# Altium integrated library Capacitor - Aluminium TH.IntLib: 4591 symbols (part 67 of 68)
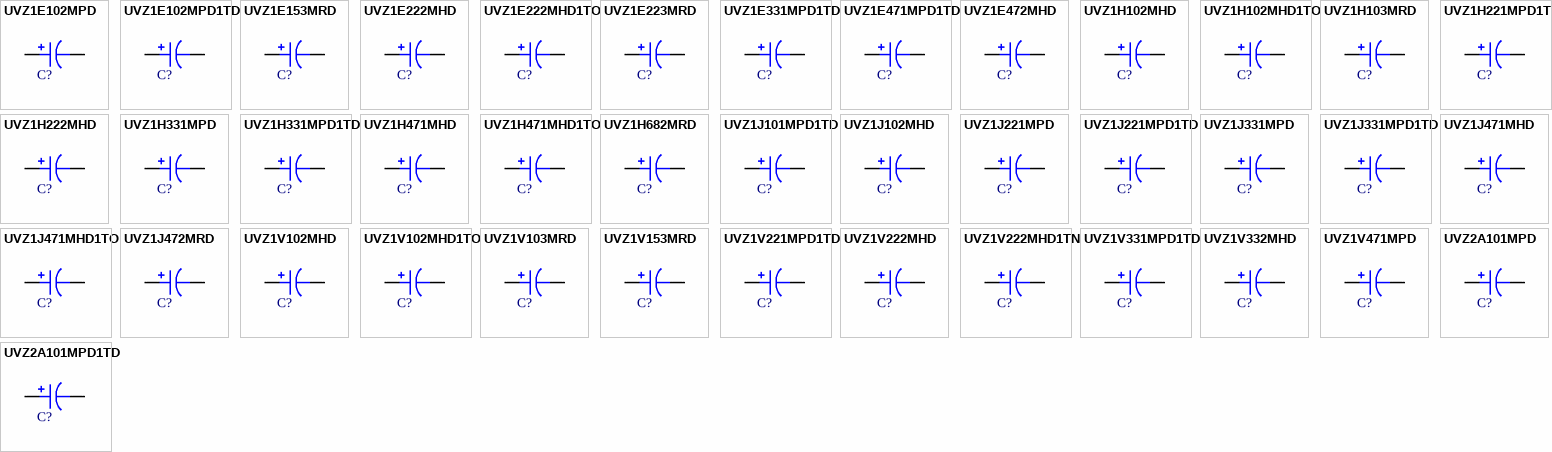
[diagram p180: symbols UVZ1E102MPD to UVZ2A101MPD1TD]

## UVZ1H102MHD
designator C?, comment 1000uF  (value not drawn)
CAP ALUM 1000UF 20% 50V RADIAL; Part Number: UVZ1H102MHD; Manufacturer: Nichicon; TemperatureRange: -55C ~ 105C; Type: Polar; Ripple Current: 950mA; Value: 1000uF; PartId: 23564; Supplier 1: Digi-Key; Supplier Part Number 1: 493-1345-ND; ComponentLink1Description: Datasheet; ComponentLink1URL: http://nichicon-us.com/english/products/pdfs/e-uvz.pdf; ComponentLink2Description: Digi-Key Listing; ComponentLink2URL: https://www.digikey.com/product-detail/en/nichicon/UVZ1H102MHD/493-1345-ND/589086; Tolerance: 20%; Voltage: 50V; Price: 0.9; Device Package: Radial, Can, 12.5mm
footprint CAP AL TH D12.5 L5 H25
pins: 1, 2

## UVZ1H102MHD1TO
designator C?, comment 1000uF  (value not drawn)
CAP ALUM 1000UF 20% 50V RADIAL; Part Number: UVZ1H102MHD1TO; Manufacturer: Nichicon; TemperatureRange: -55C ~ 105C; Type: Polar; Ripple Current: 950mA; Value: 1000uF; PartId: 23807; Supplier 1: Digi-Key; Supplier Part Number 1: 493-13465-3-ND; ComponentLink1Description: Datasheet; ComponentLink1URL: http://nichicon-us.com/english/products/pdfs/e-uvz.pdf; ComponentLink2Description: Digi-Key Listing; ComponentLink2URL: https://www.digikey.com/product-detail/en/nichicon/UVZ1H102MHD1TO/493-13465-3-ND/4342021; Tolerance: 20%; Voltage: 50V; Price: 0.3778; Device Package: Radial, Can, 12.5mm
footprint CAP AL TH D12.5 L5 H27
pins: 1, 2

## UVZ1H103MRD
designator C?, comment 10000uF  (value not drawn)
CAP ALUM 10000UF 20% 50V RADIAL; Part Number: UVZ1H103MRD; Manufacturer: Nichicon; TemperatureRange: -55C ~ 105C; Type: Polar; Ripple Current: 2.85A; Value: 10000uF; PartId: 27506; Supplier 1: Digi-Key; Supplier Part Number 1: 493-1350-ND; ComponentLink1Description: Datasheet; ComponentLink1URL: http://nichicon-us.com/english/products/pdfs/e-uvz.pdf; ComponentLink2Description: Digi-Key Listing; ComponentLink2URL: https://www.digikey.com/product-detail/en/nichicon/UVZ1H103MRD/493-1350-ND/589091; Tolerance: 20%; Voltage: 50V; Price: 4.14; Device Package: Radial, Can, 25mm
footprint CAP AL TH D25 L12.5 H52
pins: 1, 2

## UVZ1H221MPD1TD
designator C?, comment 220uF  (value not drawn)
CAP ALUM 220UF 20% 50V RADIAL; Part Number: UVZ1H221MPD1TD; Manufacturer: Nichicon; TemperatureRange: -55C ~ 105C; Type: Polar; Ripple Current: 300mA; Value: 220uF; PartId: 24549; Supplier 1: Digi-Key; Supplier Part Number 1: 493-13467-3-ND; ComponentLink1Description: Datasheet; ComponentLink1URL: http://nichicon-us.com/english/products/pdfs/e-uvz.pdf; ComponentLink2Description: Digi-Key Listing; ComponentLink2URL: https://www.digikey.com/product-detail/en/nichicon/UVZ1H221MPD1TD/493-13467-3-ND/4342023; Tolerance: 20%; Voltage: 50V; Price: 0.148; Device Package: Radial, Can, 10mm
footprint CAP AL TH D10 L5 H14.5
pins: 1, 2

## UVZ1H222MHD
designator C?, comment 2200uF  (value not drawn)
CAP ALUM 2200UF 20% 50V RADIAL; Part Number: UVZ1H222MHD; Manufacturer: Nichicon; TemperatureRange: -55C ~ 105C; Type: Polar; Ripple Current: 1.47A; Value: 2200uF; PartId: 27339; Supplier 1: Digi-Key; Supplier Part Number 1: 493-1346-ND; ComponentLink1Description: Datasheet; ComponentLink1URL: http://nichicon-us.com/english/products/pdfs/e-uvz.pdf; ComponentLink2Description: Digi-Key Listing; ComponentLink2URL: https://www.digikey.com/product-detail/en/nichicon/UVZ1H222MHD/493-1346-ND/589087; Tolerance: 20%; Voltage: 50V; Price: 1.67; Device Package: Radial, Can, 16mm
footprint CAP AL TH D16 L7.5 H37
pins: 1, 2

## UVZ1H331MPD
designator C?, comment 330uF  (value not drawn)
CAP ALUM 330UF 20% 50V RADIAL; Part Number: UVZ1H331MPD; Manufacturer: Nichicon; TemperatureRange: -55C ~ 105C; Type: Polar; Ripple Current: 410mA; Value: 330uF; PartId: 25185; Supplier 1: Digi-Key; Supplier Part Number 1: 493-1343-ND; ComponentLink1Description: Datasheet; ComponentLink1URL: http://nichicon-us.com/english/products/pdfs/e-uvz.pdf; ComponentLink2Description: Digi-Key Listing; ComponentLink2URL: https://www.digikey.com/product-detail/en/nichicon/UVZ1H331MPD/493-1343-ND/589084; Tolerance: 20%; Voltage: 50V; Price: 0.48; Device Package: Radial, Can, 10mm
footprint CAP AL TH D10 L5 H17.5
pins: 1, 2

## UVZ1H331MPD1TD
designator C?, comment 330uF  (value not drawn)
CAP ALUM 330UF 20% 50V RADIAL; Part Number: UVZ1H331MPD1TD; Manufacturer: Nichicon; TemperatureRange: -55C ~ 105C; Type: Polar; Ripple Current: 410mA; Value: 330uF; PartId: 25023; Supplier 1: Digi-Key; Supplier Part Number 1: 493-13470-3-ND; ComponentLink1Description: Datasheet; ComponentLink1URL: http://nichicon-us.com/english/products/pdfs/e-uvz.pdf; ComponentLink2Description: Digi-Key Listing; ComponentLink2URL: https://www.digikey.com/product-detail/en/nichicon/UVZ1H331MPD1TD/493-13470-3-ND/4342026; Tolerance: 20%; Voltage: 50V; Price: 0.1666; Device Package: Radial, Can, 10mm
footprint CAP AL TH D10 L5 H17.5
pins: 1, 2

## UVZ1H471MHD
designator C?, comment 470uF  (value not drawn)
CAP ALUM 470UF 20% 50V RADIAL; Part Number: UVZ1H471MHD; Manufacturer: Nichicon; TemperatureRange: -55C ~ 105C; Type: Polar; Ripple Current: 530mA; Value: 470uF; PartId: 22848; Supplier 1: Digi-Key; Supplier Part Number 1: 493-1344-ND; ComponentLink1Description: Datasheet; ComponentLink1URL: http://nichicon-us.com/english/products/pdfs/e-uvz.pdf; ComponentLink2Description: Digi-Key Listing; ComponentLink2URL: https://www.digikey.com/product-detail/en/nichicon/UVZ1H471MHD/493-1344-ND/589085; Tolerance: 20%; Voltage: 50V; Price: 0; Device Package: Radial, Can, 12.5mm
footprint CAP AL TH D12.5 L5 H20
pins: 1, 2

## UVZ1H471MHD1TO
designator C?, comment 470uF  (value not drawn)
CAP ALUM 470UF 20% 50V RADIAL; Part Number: UVZ1H471MHD1TO; Manufacturer: Nichicon; TemperatureRange: -55C ~ 105C; Type: Polar; Ripple Current: 530mA; Value: 470uF; PartId: 23136; Supplier 1: Digi-Key; Supplier Part Number 1: 493-13473-3-ND; ComponentLink1Description: Datasheet; ComponentLink1URL: http://nichicon-us.com/english/products/pdfs/e-uvz.pdf; ComponentLink2Description: Digi-Key Listing; ComponentLink2URL: https://www.digikey.com/product-detail/en/nichicon/UVZ1H471MHD1TO/493-13473-3-ND/4342029; Tolerance: 20%; Voltage: 50V; Price: 0.2513; Device Package: Radial, Can, 12.5mm
footprint CAP AL TH D12.5 L5 H22
pins: 1, 2

## UVZ1H682MRD
designator C?, comment 6800uF  (value not drawn)
CAP ALUM 6800UF 20% 50V RADIAL; Part Number: UVZ1H682MRD; Manufacturer: Nichicon; TemperatureRange: -55C ~ 105C; Type: Polar; Ripple Current: 2.5A; Value: 6800uF; PartId: 27675; Supplier 1: Digi-Key; Supplier Part Number 1: 493-1349-ND; ComponentLink1Description: Datasheet; ComponentLink1URL: http://nichicon-us.com/english/products/pdfs/e-uvz.pdf; ComponentLink2Description: Digi-Key Listing; ComponentLink2URL: https://www.digikey.com/product-detail/en/nichicon/UVZ1H682MRD/493-1349-ND/589090; Tolerance: 20%; Voltage: 50V; Price: 3.54; Device Package: Radial, Can, 22mm
footprint CAP AL TH D22 L10 H53
pins: 1, 2

## UVZ1J101MPD1TD
designator C?, comment 100uF  (value not drawn)
CAP ALUM 100UF 20% 63V RADIAL; Part Number: UVZ1J101MPD1TD; Manufacturer: Nichicon; TemperatureRange: -55C ~ 105C; Type: Polar; Ripple Current: 215mA; Value: 100uF; PartId: 24490; Supplier 1: Digi-Key; Supplier Part Number 1: 493-13479-3-ND; ComponentLink1Description: Datasheet; ComponentLink1URL: http://nichicon-us.com/english/products/pdfs/e-uvz.pdf; ComponentLink2Description: Digi-Key Listing; ComponentLink2URL: https://www.digikey.com/product-detail/en/nichicon/UVZ1J101MPD1TD/493-13479-3-ND/4342035; Tolerance: 20%; Voltage: 63V; Price: 0.1005; Device Package: Radial, Can, 10mm
footprint CAP AL TH D10 L5 H14.5
pins: 1, 2

## UVZ1J102MHD
designator C?, comment 1000uF  (value not drawn)
CAP ALUM 1000UF 20% 63V RADIAL; Part Number: UVZ1J102MHD; Manufacturer: Nichicon; TemperatureRange: -55C ~ 105C; Type: Polar; Ripple Current: 930mA; Value: 1000uF; PartId: 26565; Supplier 1: Digi-Key; Supplier Part Number 1: 493-1359-ND; ComponentLink1Description: Datasheet; ComponentLink1URL: http://nichicon-us.com/english/products/pdfs/e-uvz.pdf; ComponentLink2Description: Digi-Key Listing; ComponentLink2URL: https://www.digikey.com/product-detail/en/nichicon/UVZ1J102MHD/493-1359-ND/589100; Tolerance: 20%; Voltage: 63V; Price: 1.13; Device Package: Radial, Can, 16mm
footprint CAP AL TH D16 L7.5 H26.5
pins: 1, 2

## UVZ1J221MPD
designator C?, comment 220uF  (value not drawn)
CAP ALUM 220UF 20% 63V RADIAL; Part Number: UVZ1J221MPD; Manufacturer: Nichicon; TemperatureRange: -55C ~ 105C; Type: Polar; Ripple Current: 335mA; Value: 220uF; PartId: 25183; Supplier 1: Digi-Key; Supplier Part Number 1: 493-1356-ND; ComponentLink1Description: Datasheet; ComponentLink1URL: http://nichicon-us.com/english/products/pdfs/e-uvz.pdf; ComponentLink2Description: Digi-Key Listing; ComponentLink2URL: https://www.digikey.com/product-detail/en/nichicon/UVZ1J221MPD/493-1356-ND/589097; Tolerance: 20%; Voltage: 63V; Price: 0.48; Device Package: Radial, Can, 10mm
footprint CAP AL TH D10 L5 H17.5
pins: 1, 2

## UVZ1J221MPD1TD
designator C?, comment 220uF  (value not drawn)
CAP ALUM 220UF 20% 63V RADIAL; Part Number: UVZ1J221MPD1TD; Manufacturer: Nichicon; TemperatureRange: -55C ~ 105C; Type: Polar; Ripple Current: 335mA; Value: 220uF; PartId: 25021; Supplier 1: Digi-Key; Supplier Part Number 1: 493-13482-3-ND; ComponentLink1Description: Datasheet; ComponentLink1URL: http://nichicon-us.com/english/products/pdfs/e-uvz.pdf; ComponentLink2Description: Digi-Key Listing; ComponentLink2URL: https://www.digikey.com/product-detail/en/nichicon/UVZ1J221MPD1TD/493-13482-3-ND/4342038; Tolerance: 20%; Voltage: 63V; Price: 0.1664; Device Package: Radial, Can, 10mm
footprint CAP AL TH D10 L5 H17.5
pins: 1, 2

## UVZ1J331MPD
designator C?, comment 330uF  (value not drawn)
CAP ALUM 330UF 20% 63V RADIAL; Part Number: UVZ1J331MPD; Manufacturer: Nichicon; TemperatureRange: -55C ~ 105C; Type: Polar; Ripple Current: 510mA; Value: 330uF; PartId: 25523; Supplier 1: Digi-Key; Supplier Part Number 1: 493-1357-ND; ComponentLink1Description: Datasheet; ComponentLink1URL: http://nichicon-us.com/english/products/pdfs/e-uvz.pdf; ComponentLink2Description: Digi-Key Listing; ComponentLink2URL: https://www.digikey.com/product-detail/en/nichicon/UVZ1J331MPD/493-1357-ND/589098; Tolerance: 20%; Voltage: 63V; Price: 0.6; Device Package: Radial, Can, 10mm
footprint CAP AL TH D10 L5 H22
pins: 1, 2

## UVZ1J331MPD1TD
designator C?, comment 330uF  (value not drawn)
CAP ALUM 330UF 20% 63V RADIAL; Part Number: UVZ1J331MPD1TD; Manufacturer: Nichicon; TemperatureRange: -55C ~ 105C; Type: Polar; Ripple Current: 510mA; Value: 330uF; PartId: 25757; Supplier 1: Digi-Key; Supplier Part Number 1: 493-13484-3-ND; ComponentLink1Description: Datasheet; ComponentLink1URL: http://nichicon-us.com/english/products/pdfs/e-uvz.pdf; ComponentLink2Description: Digi-Key Listing; ComponentLink2URL: https://www.digikey.com/product-detail/en/nichicon/UVZ1J331MPD1TD/493-13484-3-ND/4342040; Tolerance: 20%; Voltage: 63V; Price: 0.2052; Device Package: Radial, Can, 10mm
footprint CAP AL TH D10 L5 H22
pins: 1, 2

## UVZ1J471MHD
designator C?, comment 470uF  (value not drawn)
CAP ALUM 470UF 20% 63V RADIAL; Part Number: UVZ1J471MHD; Manufacturer: Nichicon; TemperatureRange: -55C ~ 105C; Type: Polar; Ripple Current: 640mA; Value: 470uF; PartId: 22865; Supplier 1: Digi-Key; Supplier Part Number 1: 493-1358-ND; ComponentLink1Description: Datasheet; ComponentLink1URL: http://nichicon-us.com/english/products/pdfs/e-uvz.pdf; ComponentLink2Description: Digi-Key Listing; ComponentLink2URL: https://www.digikey.com/product-detail/en/nichicon/UVZ1J471MHD/493-1358-ND/589099; Tolerance: 20%; Voltage: 63V; Price: 0; Device Package: Radial, Can, 12.5mm
footprint CAP AL TH D12.5 L5 H20
pins: 1, 2

## UVZ1J471MHD1TO
designator C?, comment 470uF  (value not drawn)
CAP ALUM 470UF 20% 63V RADIAL; Part Number: UVZ1J471MHD1TO; Manufacturer: Nichicon; TemperatureRange: -55C ~ 105C; Type: Polar; Ripple Current: 640mA; Value: 470uF; PartId: 23310; Supplier 1: Digi-Key; Supplier Part Number 1: 493-13486-1-ND; ComponentLink1Description: Datasheet; ComponentLink1URL: http://nichicon-us.com/english/products/pdfs/e-uvz.pdf; ComponentLink2Description: Digi-Key Listing; ComponentLink2URL: https://www.digikey.com/product-detail/en/nichicon/UVZ1J471MHD1TO/493-13486-1-ND/4342197; Tolerance: 20%; Voltage: 63V; Price: 0.81; Device Package: Radial, Can, 12.5mm
footprint CAP AL TH D12.5 L5 H22
pins: 1, 2

## UVZ1J472MRD
designator C?, comment 4700uF  (value not drawn)
CAP ALUM 4700UF 20% 63V RADIAL; Part Number: UVZ1J472MRD; Manufacturer: Nichicon; TemperatureRange: -55C ~ 105C; Type: Polar; Ripple Current: 2.45A; Value: 4700uF; PartId: 27615; Supplier 1: Digi-Key; Supplier Part Number 1: 493-1362-ND; ComponentLink1Description: Datasheet; ComponentLink1URL: http://nichicon-us.com/english/products/pdfs/e-uvz.pdf; ComponentLink2Description: Digi-Key Listing; ComponentLink2URL: https://www.digikey.com/product-detail/en/nichicon/UVZ1J472MRD/493-1362-ND/589103; Tolerance: 20%; Voltage: 63V; Price: 4.5; Device Package: Radial, Can, 22mm
footprint CAP AL TH D22 L10 H53
pins: 1, 2

## UVZ1V102MHD
designator C?, comment 1000uF  (value not drawn)
CAP ALUM 1000UF 20% 35V RADIAL; Part Number: UVZ1V102MHD; Manufacturer: Nichicon; TemperatureRange: -55C ~ 105C; Type: Polar; Ripple Current: 810mA; Value: 1000uF; PartId: 22851; Supplier 1: Digi-Key; Supplier Part Number 1: 493-1322-ND; ComponentLink1Description: Datasheet; ComponentLink1URL: http://nichicon-us.com/english/products/pdfs/e-uvz.pdf; ComponentLink2Description: Digi-Key Listing; ComponentLink2URL: https://www.digikey.com/product-detail/en/nichicon/UVZ1V102MHD/493-1322-ND/589063; Tolerance: 20%; Voltage: 35V; Price: 0; Device Package: Radial, Can, 12.5mm
footprint CAP AL TH D12.5 L5 H20
pins: 1, 2

## UVZ1V102MHD1TO
designator C?, comment 1000uF  (value not drawn)
CAP ALUM 1000UF 20% 35V RADIAL; Part Number: UVZ1V102MHD1TO; Manufacturer: Nichicon; TemperatureRange: -55C ~ 105C; Type: Polar; Ripple Current: 810mA; Value: 1000uF; PartId: 23264; Supplier 1: Digi-Key; Supplier Part Number 1: 493-13489-1-ND; ComponentLink1Description: Datasheet; ComponentLink1URL: http://nichicon-us.com/english/products/pdfs/e-uvz.pdf; ComponentLink2Description: Digi-Key Listing; ComponentLink2URL: https://www.digikey.com/product-detail/en/nichicon/UVZ1V102MHD1TO/493-13489-1-ND/4342200; Tolerance: 20%; Voltage: 35V; Price: 0.74; Device Package: Radial, Can, 12.5mm
footprint CAP AL TH D12.5 L5 H22
pins: 1, 2

## UVZ1V103MRD
designator C?, comment 10000uF  (value not drawn)
CAP ALUM 10000UF 20% 35V RADIAL; Part Number: UVZ1V103MRD; Manufacturer: Nichicon; TemperatureRange: -55C ~ 105C; Type: Polar; Ripple Current: 2.65A; Value: 10000uF; PartId: 27606; Supplier 1: Digi-Key; Supplier Part Number 1: 493-1327-ND; ComponentLink1Description: Datasheet; ComponentLink1URL: http://nichicon-us.com/english/products/pdfs/e-uvz.pdf; ComponentLink2Description: Digi-Key Listing; ComponentLink2URL: https://www.digikey.com/product-detail/en/nichicon/UVZ1V103MRD/493-1327-ND/589068; Tolerance: 20%; Voltage: 35V; Price: 3.54; Device Package: Radial, Can, 22mm
footprint CAP AL TH D22 L10 H53
pins: 1, 2

## UVZ1V153MRD
designator C?, comment 15000uF  (value not drawn)
CAP ALUM 15000UF 20% 35V RADIAL; Part Number: UVZ1V153MRD; Manufacturer: Nichicon; TemperatureRange: -55C ~ 105C; Type: Polar; Ripple Current: 3.1A; Value: 15000uF; PartId: 27503; Supplier 1: Digi-Key; Supplier Part Number 1: 493-1328-ND; ComponentLink1Description: Datasheet; ComponentLink1URL: http://nichicon-us.com/english/products/pdfs/e-uvz.pdf; ComponentLink2Description: Digi-Key Listing; ComponentLink2URL: https://www.digikey.com/product-detail/en/nichicon/UVZ1V153MRD/493-1328-ND/589069; Tolerance: 20%; Voltage: 35V; Price: 3.96; Device Package: Radial, Can, 25mm
footprint CAP AL TH D25 L12.5 H52
pins: 1, 2

## UVZ1V221MPD1TD
designator C?, comment 220uF  (value not drawn)
CAP ALUM 220UF 20% 35V RADIAL; Part Number: UVZ1V221MPD1TD; Manufacturer: Nichicon; TemperatureRange: -55C ~ 105C; Type: Polar; Ripple Current: 275mA; Value: 220uF; PartId: 24500; Supplier 1: Digi-Key; Supplier Part Number 1: 493-13491-3-ND; ComponentLink1Description: Datasheet; ComponentLink1URL: http://nichicon-us.com/english/products/pdfs/e-uvz.pdf; ComponentLink2Description: Digi-Key Listing; ComponentLink2URL: https://www.digikey.com/product-detail/en/nichicon/UVZ1V221MPD1TD/493-13491-3-ND/4342047; Tolerance: 20%; Voltage: 35V; Price: 0.1113; Device Package: Radial, Can, 10mm
footprint CAP AL TH D10 L5 H14.5
pins: 1, 2

## UVZ1V222MHD
designator C?, comment 2200uF  (value not drawn)
CAP ALUM 2200UF 20% 35V RADIAL; Part Number: UVZ1V222MHD; Manufacturer: Nichicon; TemperatureRange: -55C ~ 105C; Type: Polar; Ripple Current: 1.26A; Value: 2200uF; PartId: 26581; Supplier 1: Digi-Key; Supplier Part Number 1: 493-1323-ND; ComponentLink1Description: Datasheet; ComponentLink1URL: http://nichicon-us.com/english/products/pdfs/e-uvz.pdf; ComponentLink2Description: Digi-Key Listing; ComponentLink2URL: https://www.digikey.com/product-detail/en/nichicon/UVZ1V222MHD/493-1323-ND/589064; Tolerance: 20%; Voltage: 35V; Price: 1.24; Device Package: Radial, Can, 16mm
footprint CAP AL TH D16 L7.5 H26.5
pins: 1, 2

## UVZ1V222MHD1TN
designator C?, comment 2200uF  (value not drawn)
CAP ALUM 2200UF 20% 35V RADIAL; Part Number: UVZ1V222MHD1TN; Manufacturer: Nichicon; TemperatureRange: -55C ~ 105C; Type: Polar; Ripple Current: 1.26A; Value: 2200uF; PartId: 26782; Supplier 1: Digi-Key; Supplier Part Number 1: 493-13492-3-ND; ComponentLink1Description: Datasheet; ComponentLink1URL: http://nichicon-us.com/english/products/pdfs/e-uvz.pdf; ComponentLink2Description: Digi-Key Listing; ComponentLink2URL: https://www.digikey.com/product-detail/en/nichicon/UVZ1V222MHD1TN/493-13492-3-ND/4342048; Tolerance: 20%; Voltage: 35V; Price: 0.6552; Device Package: Radial, Can, 16mm
footprint CAP AL TH D16 L7.5 H27
pins: 1, 2

## UVZ1V331MPD1TD
designator C?, comment 330uF  (value not drawn)
CAP ALUM 330UF 20% 35V RADIAL; Part Number: UVZ1V331MPD1TD; Manufacturer: Nichicon; TemperatureRange: -55C ~ 105C; Type: Polar; Ripple Current: 350mA; Value: 330uF; PartId: 24812; Supplier 1: Digi-Key; Supplier Part Number 1: 493-13494-1-ND; ComponentLink1Description: Datasheet; ComponentLink1URL: http://nichicon-us.com/english/products/pdfs/e-uvz.pdf; ComponentLink2Description: Digi-Key Listing; ComponentLink2URL: https://www.digikey.com/product-detail/en/nichicon/UVZ1V331MPD1TD/493-13494-1-ND/4342205; Tolerance: 20%; Voltage: 35V; Price: 0.45; Device Package: Radial, Can, 10mm
footprint CAP AL TH D10 L5 H14.5
pins: 1, 2

## UVZ1V332MHD
designator C?, comment 3300uF  (value not drawn)
CAP ALUM 3300UF 20% 35V RADIAL; Part Number: UVZ1V332MHD; Manufacturer: Nichicon; TemperatureRange: -55C ~ 105C; Type: Polar; Ripple Current: 1.61A; Value: 3300uF; PartId: 27312; Supplier 1: Digi-Key; Supplier Part Number 1: 493-1324-ND; ComponentLink1Description: Datasheet; ComponentLink1URL: http://nichicon-us.com/english/products/pdfs/e-uvz.pdf; ComponentLink2Description: Digi-Key Listing; ComponentLink2URL: https://www.digikey.com/product-detail/en/nichicon/UVZ1V332MHD/493-1324-ND/589065; Tolerance: 20%; Voltage: 35V; Price: 1.27; Device Package: Radial, Can, 16mm
footprint CAP AL TH D16 L7.5 H37
pins: 1, 2

## UVZ1V471MPD
designator C?, comment 470uF  (value not drawn)
CAP ALUM 470UF 20% 35V RADIAL; Part Number: UVZ1V471MPD; Manufacturer: Nichicon; TemperatureRange: -55C ~ 105C; Type: Polar; Ripple Current: 460mA; Value: 470uF; PartId: 25184; Supplier 1: Digi-Key; Supplier Part Number 1: 493-1321-ND; ComponentLink1Description: Datasheet; ComponentLink1URL: http://nichicon-us.com/english/products/pdfs/e-uvz.pdf; ComponentLink2Description: Digi-Key Listing; ComponentLink2URL: https://www.digikey.com/product-detail/en/nichicon/UVZ1V471MPD/493-1321-ND/589062; Tolerance: 20%; Voltage: 35V; Price: 0.48; Device Package: Radial, Can, 10mm
footprint CAP AL TH D10 L5 H17.5
pins: 1, 2

## UVZ2A101MPD
designator C?, comment 100uF  (value not drawn)
CAP ALUM 100UF 20% 100V RADIAL; Part Number: UVZ2A101MPD; Manufacturer: Nichicon; TemperatureRange: -55C ~ 105C; Type: Polar; Ripple Current: 265mA; Value: 100uF; PartId: 25535; Supplier 1: Digi-Key; Supplier Part Number 1: 493-1376-ND; ComponentLink1Description: Datasheet; ComponentLink1URL: http://nichicon-us.com/english/products/pdfs/e-uvz.pdf; ComponentLink2Description: Digi-Key Listing; ComponentLink2URL: https://www.digikey.com/product-detail/en/nichicon/UVZ2A101MPD/493-1376-ND/589117; Tolerance: 20%; Voltage: 100V; Price: 0.62; Device Package: Radial, Can, 10mm
footprint CAP AL TH D10 L5 H22
pins: 1, 2

## UVZ2A101MPD1TD
designator C?, comment 100uF  (value not drawn)
CAP ALUM 100UF 20% 100V RADIAL; Part Number: UVZ2A101MPD1TD; Manufacturer: Nichicon; TemperatureRange: -55C ~ 105C; Type: Polar; Ripple Current: 265mA; Value: 100uF; PartId: 25763; Supplier 1: Digi-Key; Supplier Part Number 1: 493-13501-3-ND; ComponentLink1Description: Datasheet; ComponentLink1URL: http://nichicon-us.com/english/products/pdfs/e-uvz.pdf; ComponentLink2Description: Digi-Key Listing; ComponentLink2URL: https://www.digikey.com/product-detail/en/nichicon/UVZ2A101MPD1TD/493-13501-3-ND/4342057; Tolerance: 20%; Voltage: 100V; Price: 0.2152; Device Package: Radial, Can, 10mm
footprint CAP AL TH D10 L5 H22
pins: 1, 2

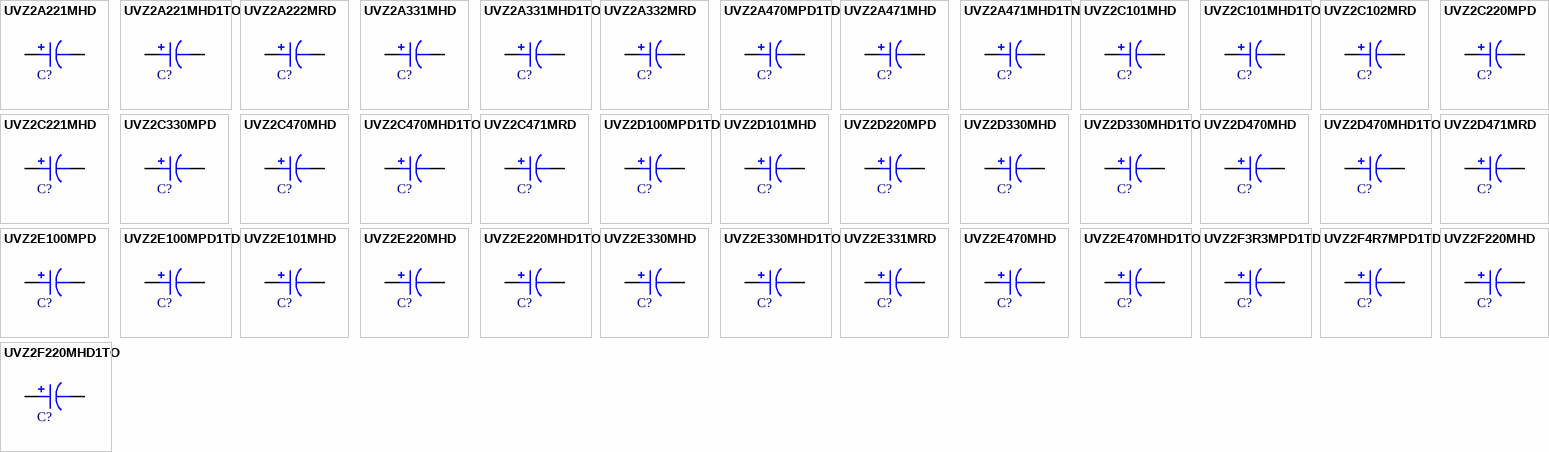
[diagram p113: symbols UVZ2A221MHD to UVZ2F220MHD1TO]

## UVZ2A221MHD
designator C?, comment 220uF  (value not drawn)
CAP ALUM 220UF 20% 100V RADIAL; Part Number: UVZ2A221MHD; Manufacturer: Nichicon; TemperatureRange: -55C ~ 105C; Type: Polar; Ripple Current: 440mA; Value: 220uF; PartId: 23563; Supplier 1: Digi-Key; Supplier Part Number 1: 493-1377-ND; ComponentLink1Description: Datasheet; ComponentLink1URL: http://nichicon-us.com/english/products/pdfs/e-uvz.pdf; ComponentLink2Description: Digi-Key Listing; ComponentLink2URL: https://www.digikey.com/product-detail/en/nichicon/UVZ2A221MHD/493-1377-ND/589118; Tolerance: 20%; Voltage: 100V; Price: 0.9; Device Package: Radial, Can, 12.5mm
footprint CAP AL TH D12.5 L5 H25
pins: 1, 2

## UVZ2A221MHD1TO
designator C?, comment 220uF  (value not drawn)
CAP ALUM 220UF 20% 100V RADIAL; Part Number: UVZ2A221MHD1TO; Manufacturer: Nichicon; TemperatureRange: -55C ~ 105C; Type: Polar; Ripple Current: 440mA; Value: 220uF; PartId: 23975; Supplier 1: Digi-Key; Supplier Part Number 1: 493-13503-1-ND; ComponentLink1Description: Datasheet; ComponentLink1URL: http://nichicon-us.com/english/products/pdfs/e-uvz.pdf; ComponentLink2Description: Digi-Key Listing; ComponentLink2URL: https://www.digikey.com/product-detail/en/nichicon/UVZ2A221MHD1TO/493-13503-1-ND/4342214; Tolerance: 20%; Voltage: 100V; Price: 1.01; Device Package: Radial, Can, 12.5mm
footprint CAP AL TH D12.5 L5 H27
pins: 1, 2

## UVZ2A222MRD
designator C?, comment 2200uF  (value not drawn)
CAP ALUM 2200UF 20% 100V RADIAL; Part Number: UVZ2A222MRD; Manufacturer: Nichicon; TemperatureRange: -55C ~ 105C; Type: Polar; Ripple Current: 1.75A; Value: 2200uF; PartId: 27613; Supplier 1: Digi-Key; Supplier Part Number 1: 493-1381-ND; ComponentLink1Description: Datasheet; ComponentLink1URL: http://nichicon-us.com/english/products/pdfs/e-uvz.pdf; ComponentLink2Description: Digi-Key Listing; ComponentLink2URL: https://www.digikey.com/product-detail/en/nichicon/UVZ2A222MRD/493-1381-ND/589122; Tolerance: 20%; Voltage: 100V; Price: 4.06; Device Package: Radial, Can, 22mm
footprint CAP AL TH D22 L10 H53
pins: 1, 2

## UVZ2A331MHD
designator C?, comment 330uF  (value not drawn)
CAP ALUM 330UF 20% 100V RADIAL; Part Number: UVZ2A331MHD; Manufacturer: Nichicon; TemperatureRange: -55C ~ 105C; Type: Polar; Ripple Current: 540mA; Value: 330uF; PartId: 23616; Supplier 1: Digi-Key; Supplier Part Number 1: 493-1378-ND; ComponentLink1Description: Datasheet; ComponentLink1URL: http://nichicon-us.com/english/products/pdfs/e-uvz.pdf; ComponentLink2Description: Digi-Key Listing; ComponentLink2URL: https://www.digikey.com/product-detail/en/nichicon/UVZ2A331MHD/493-1378-ND/589119; Tolerance: 20%; Voltage: 100V; Price: 1.29; Device Package: Radial, Can, 12.5mm
footprint CAP AL TH D12.5 L5 H25
pins: 1, 2

## UVZ2A331MHD1TO
designator C?, comment 330uF  (value not drawn)
CAP ALUM 330UF 20% 100V RADIAL; Part Number: UVZ2A331MHD1TO; Manufacturer: Nichicon; TemperatureRange: -55C ~ 105C; Type: Polar; Ripple Current: 540mA; Value: 330uF; PartId: 24131; Supplier 1: Digi-Key; Supplier Part Number 1: 493-13506-1-ND; ComponentLink1Description: Datasheet; ComponentLink1URL: http://nichicon-us.com/english/products/pdfs/e-uvz.pdf; ComponentLink2Description: Digi-Key Listing; ComponentLink2URL: https://www.digikey.com/product-detail/en/nichicon/UVZ2A331MHD1TO/493-13506-1-ND/4342217; Tolerance: 20%; Voltage: 100V; Price: 1.44; Device Package: Radial, Can, 12.5mm
footprint CAP AL TH D12.5 L5 H27
pins: 1, 2

## UVZ2A332MRD
designator C?, comment 3300uF  (value not drawn)
CAP ALUM 3300UF 20% 100V RADIAL; Part Number: UVZ2A332MRD; Manufacturer: Nichicon; TemperatureRange: -55C ~ 105C; Type: Polar; Ripple Current: 2.07A; Value: 3300uF; PartId: 27499; Supplier 1: Digi-Key; Supplier Part Number 1: 493-1382-ND; ComponentLink1Description: Datasheet; ComponentLink1URL: http://nichicon-us.com/english/products/pdfs/e-uvz.pdf; ComponentLink2Description: Digi-Key Listing; ComponentLink2URL: https://www.digikey.com/product-detail/en/nichicon/UVZ2A332MRD/493-1382-ND/589123; Tolerance: 20%; Voltage: 100V; Price: 5.61; Device Package: Radial, Can, 25mm
footprint CAP AL TH D25 L12.5 H52
pins: 1, 2

## UVZ2A470MPD1TD
designator C?, comment 47uF  (value not drawn)
CAP ALUM 47UF 20% 100V RADIAL; Part Number: UVZ2A470MPD1TD; Manufacturer: Nichicon; TemperatureRange: -55C ~ 105C; Type: Polar; Ripple Current: 165mA; Value: 47uF; PartId: 24753; Supplier 1: Digi-Key; Supplier Part Number 1: 493-13508-1-ND; ComponentLink1Description: Datasheet; ComponentLink1URL: http://nichicon-us.com/english/products/pdfs/e-uvz.pdf; ComponentLink2Description: Digi-Key Listing; ComponentLink2URL: https://www.digikey.com/product-detail/en/nichicon/UVZ2A470MPD1TD/493-13508-1-ND/4342219; Tolerance: 20%; Voltage: 100V; Price: 0.42; Device Package: Radial, Can, 10mm
footprint CAP AL TH D10 L5 H14.5
pins: 1, 2

## UVZ2A471MHD
designator C?, comment 470uF  (value not drawn)
CAP ALUM 470UF 20% 100V RADIAL; Part Number: UVZ2A471MHD; Manufacturer: Nichicon; TemperatureRange: -55C ~ 105C; Type: Polar; Ripple Current: 715mA; Value: 470uF; PartId: 26574; Supplier 1: Digi-Key; Supplier Part Number 1: 493-1379-ND; ComponentLink1Description: Datasheet; ComponentLink1URL: http://nichicon-us.com/english/products/pdfs/e-uvz.pdf; ComponentLink2Description: Digi-Key Listing; ComponentLink2URL: https://www.digikey.com/product-detail/en/nichicon/UVZ2A471MHD/493-1379-ND/589120; Tolerance: 20%; Voltage: 100V; Price: 1.2; Device Package: Radial, Can, 16mm
footprint CAP AL TH D16 L7.5 H26.5
pins: 1, 2

## UVZ2A471MHD1TN
designator C?, comment 470uF  (value not drawn)
CAP ALUM 470UF 20% 100V RADIAL; Part Number: UVZ2A471MHD1TN; Manufacturer: Nichicon; TemperatureRange: -55C ~ 105C; Type: Polar; Ripple Current: 715mA; Value: 470uF; PartId: 26777; Supplier 1: Digi-Key; Supplier Part Number 1: 493-13509-3-ND; ComponentLink1Description: Datasheet; ComponentLink1URL: http://nichicon-us.com/english/products/pdfs/e-uvz.pdf; ComponentLink2Description: Digi-Key Listing; ComponentLink2URL: https://www.digikey.com/product-detail/en/nichicon/UVZ2A471MHD1TN/493-13509-3-ND/4342065; Tolerance: 20%; Voltage: 100V; Price: 0.6326; Device Package: Radial, Can, 16mm
footprint CAP AL TH D16 L7.5 H27
pins: 1, 2

## UVZ2C101MHD
designator C?, comment 100uF  (value not drawn)
CAP ALUM 100UF 20% 160V RADIAL; Part Number: UVZ2C101MHD; Manufacturer: Nichicon; TemperatureRange: -40C ~ 105C; Type: Polar; Ripple Current: 215mA; Value: 100uF; PartId: 23559; Supplier 1: Digi-Key; Supplier Part Number 1: 493-1392-ND; ComponentLink1Description: Datasheet; ComponentLink1URL: http://nichicon-us.com/english/products/pdfs/e-uvz.pdf; ComponentLink2Description: Digi-Key Listing; ComponentLink2URL: https://www.digikey.com/product-detail/en/nichicon/UVZ2C101MHD/493-1392-ND/589133; Tolerance: 20%; Voltage: 160V; Price: 0.87; Device Package: Radial, Can, 12.5mm
footprint CAP AL TH D12.5 L5 H25
pins: 1, 2

## UVZ2C101MHD1TO
designator C?, comment 100uF  (value not drawn)
CAP ALUM 100UF 20% 160V RADIAL; Part Number: UVZ2C101MHD1TO; Manufacturer: Nichicon; TemperatureRange: -40C ~ 105C; Type: Polar; Ripple Current: 215mA; Value: 100uF; PartId: 23805; Supplier 1: Digi-Key; Supplier Part Number 1: 493-13516-3-ND; ComponentLink1Description: Datasheet; ComponentLink1URL: http://nichicon-us.com/english/products/pdfs/e-uvz.pdf; ComponentLink2Description: Digi-Key Listing; ComponentLink2URL: https://www.digikey.com/product-detail/en/nichicon/UVZ2C101MHD1TO/493-13516-3-ND/4342072; Tolerance: 20%; Voltage: 160V; Price: 0.3654; Device Package: Radial, Can, 12.5mm
footprint CAP AL TH D12.5 L5 H27
pins: 1, 2

## UVZ2C102MRD
designator C?, comment 1000uF  (value not drawn)
CAP ALUM 1000UF 20% 160V RADIAL; Part Number: UVZ2C102MRD; Manufacturer: Nichicon; TemperatureRange: -40C ~ 105C; Type: Polar; Ripple Current: 1.31A; Value: 1000uF; PartId: 27542; Supplier 1: Digi-Key; Supplier Part Number 1: 493-1396-ND; ComponentLink1Description: Datasheet; ComponentLink1URL: http://nichicon-us.com/english/products/pdfs/e-uvz.pdf; ComponentLink2Description: Digi-Key Listing; ComponentLink2URL: https://www.digikey.com/product-detail/en/nichicon/UVZ2C102MRD/493-1396-ND/589137; Tolerance: 20%; Voltage: 160V; Price: 3.76; Device Package: Radial, Can, 25mm
footprint CAP AL TH D25 L12.5 H52
pins: 1, 2

## UVZ2C220MPD
designator C?, comment 22uF  (value not drawn)
CAP ALUM 22UF 20% 160V RADIAL; Part Number: UVZ2C220MPD; Manufacturer: Nichicon; TemperatureRange: -40C ~ 105C; Type: Polar; Ripple Current: 100mA; Value: 22uF; PartId: 25179; Supplier 1: Digi-Key; Supplier Part Number 1: 493-1389-ND; ComponentLink1Description: Datasheet; ComponentLink1URL: http://nichicon-us.com/english/products/pdfs/e-uvz.pdf; ComponentLink2Description: Digi-Key Listing; ComponentLink2URL: https://www.digikey.com/product-detail/en/nichicon/UVZ2C220MPD/493-1389-ND/589130; Tolerance: 20%; Voltage: 160V; Price: 0.46; Device Package: Radial, Can, 10mm
footprint CAP AL TH D10 L5 H17.5
pins: 1, 2

## UVZ2C221MHD
designator C?, comment 220uF  (value not drawn)
CAP ALUM 220UF 20% 160V RADIAL; Part Number: UVZ2C221MHD; Manufacturer: Nichicon; TemperatureRange: -40C ~ 105C; Type: Polar; Ripple Current: 570mA; Value: 220uF; PartId: 27322; Supplier 1: Digi-Key; Supplier Part Number 1: 493-1393-ND; ComponentLink1Description: Datasheet; ComponentLink1URL: http://nichicon-us.com/english/products/pdfs/e-uvz.pdf; ComponentLink2Description: Digi-Key Listing; ComponentLink2URL: https://www.digikey.com/product-detail/en/nichicon/UVZ2C221MHD/493-1393-ND/589134; Tolerance: 20%; Voltage: 160V; Price: 1.51; Device Package: Radial, Can, 16mm
footprint CAP AL TH D16 L7.5 H37
pins: 1, 2

## UVZ2C330MPD
designator C?, comment 33uF  (value not drawn)
CAP ALUM 33UF 20% 160V RADIAL; Part Number: UVZ2C330MPD; Manufacturer: Nichicon; TemperatureRange: -40C ~ 105C; Type: Polar; Ripple Current: 145mA; Value: 33uF; PartId: 25546; Supplier 1: Digi-Key; Supplier Part Number 1: 493-1390-ND; ComponentLink1Description: Datasheet; ComponentLink1URL: http://nichicon-us.com/english/products/pdfs/e-uvz.pdf; ComponentLink2Description: Digi-Key Listing; ComponentLink2URL: https://www.digikey.com/product-detail/en/nichicon/UVZ2C330MPD/493-1390-ND/589131; Tolerance: 20%; Voltage: 160V; Price: 0.63; Device Package: Radial, Can, 10mm
footprint CAP AL TH D10 L5 H22
pins: 1, 2

## UVZ2C470MHD
designator C?, comment 47uF  (value not drawn)
CAP ALUM 47UF 20% 160V RADIAL; Part Number: UVZ2C470MHD; Manufacturer: Nichicon; TemperatureRange: -40C ~ 105C; Type: Polar; Ripple Current: 195mA; Value: 47uF; PartId: 22859; Supplier 1: Digi-Key; Supplier Part Number 1: 493-1391-ND; ComponentLink1Description: Datasheet; ComponentLink1URL: http://nichicon-us.com/english/products/pdfs/e-uvz.pdf; ComponentLink2Description: Digi-Key Listing; ComponentLink2URL: https://www.digikey.com/product-detail/en/nichicon/UVZ2C470MHD/493-1391-ND/589132; Tolerance: 20%; Voltage: 160V; Price: 0; Device Package: Radial, Can, 12.5mm
footprint CAP AL TH D12.5 L5 H20
pins: 1, 2

## UVZ2C470MHD1TO
designator C?, comment 47uF  (value not drawn)
CAP ALUM 47UF 20% 160V RADIAL; Part Number: UVZ2C470MHD1TO; Manufacturer: Nichicon; TemperatureRange: -40C ~ 105C; Type: Polar; Ripple Current: 195mA; Value: 47uF; PartId: 23232; Supplier 1: Digi-Key; Supplier Part Number 1: 493-13521-1-ND; ComponentLink1Description: Datasheet; ComponentLink1URL: http://nichicon-us.com/english/products/pdfs/e-uvz.pdf; ComponentLink2Description: Digi-Key Listing; ComponentLink2URL: https://www.digikey.com/product-detail/en/nichicon/UVZ2C470MHD1TO/493-13521-1-ND/4342232; Tolerance: 20%; Voltage: 160V; Price: 0.67; Device Package: Radial, Can, 12.5mm
footprint CAP AL TH D12.5 L5 H22
pins: 1, 2

## UVZ2C471MRD
designator C?, comment 470uF  (value not drawn)
CAP ALUM 470UF 20% 160V RADIAL; Part Number: UVZ2C471MRD; Manufacturer: Nichicon; TemperatureRange: -40C ~ 105C; Type: Polar; Ripple Current: 900mA; Value: 470uF; PartId: 27594; Supplier 1: Digi-Key; Supplier Part Number 1: 493-1395-ND; ComponentLink1Description: Datasheet; ComponentLink1URL: http://nichicon-us.com/english/products/pdfs/e-uvz.pdf; ComponentLink2Description: Digi-Key Listing; ComponentLink2URL: https://www.digikey.com/product-detail/en/nichicon/UVZ2C471MRD/493-1395-ND/589136; Tolerance: 20%; Voltage: 160V; Price: 2.49; Device Package: Radial, Can, 22mm
footprint CAP AL TH D22 L10 H43
pins: 1, 2

## UVZ2D100MPD1TD
designator C?, comment 10uF  (value not drawn)
CAP ALUM 10UF 20% 200V RADIAL; Part Number: UVZ2D100MPD1TD; Manufacturer: Nichicon; TemperatureRange: -40C ~ 105C; Type: Polar; Ripple Current: 65mA; Value: 10uF; PartId: 24867; Supplier 1: Digi-Key; Supplier Part Number 1: 493-13525-1-ND; ComponentLink1Description: Datasheet; ComponentLink1URL: http://nichicon-us.com/english/products/pdfs/e-uvz.pdf; ComponentLink2Description: Digi-Key Listing; ComponentLink2URL: https://www.digikey.com/product-detail/en/nichicon/UVZ2D100MPD1TD/493-13525-1-ND/4342236; Tolerance: 20%; Voltage: 200V; Price: 0.47; Device Package: Radial, Can, 10mm
footprint CAP AL TH D10 L5 H14.5
pins: 1, 2

## UVZ2D101MHD
designator C?, comment 100uF  (value not drawn)
CAP ALUM 100UF 20% 200V RADIAL; Part Number: UVZ2D101MHD; Manufacturer: Nichicon; TemperatureRange: -40C ~ 105C; Type: Polar; Ripple Current: 375mA; Value: 100uF; PartId: 26990; Supplier 1: Digi-Key; Supplier Part Number 1: 493-1406-ND; ComponentLink1Description: Datasheet; ComponentLink1URL: http://nichicon-us.com/english/products/pdfs/e-uvz.pdf; ComponentLink2Description: Digi-Key Listing; ComponentLink2URL: https://www.digikey.com/product-detail/en/nichicon/UVZ2D101MHD/493-1406-ND/589147; Tolerance: 20%; Voltage: 200V; Price: 1.28; Device Package: Radial, Can, 16mm
footprint CAP AL TH D16 L7.5 H33.5
pins: 1, 2

## UVZ2D220MPD
designator C?, comment 22uF  (value not drawn)
CAP ALUM 22UF 20% 200V RADIAL; Part Number: UVZ2D220MPD; Manufacturer: Nichicon; TemperatureRange: -40C ~ 105C; Type: Polar; Ripple Current: 120mA; Value: 22uF; PartId: 25538; Supplier 1: Digi-Key; Supplier Part Number 1: 493-1403-ND; ComponentLink1Description: Datasheet; ComponentLink1URL: http://nichicon-us.com/english/products/pdfs/e-uvz.pdf; ComponentLink2Description: Digi-Key Listing; ComponentLink2URL: https://www.digikey.com/product-detail/en/nichicon/UVZ2D220MPD/493-1403-ND/589144; Tolerance: 20%; Voltage: 200V; Price: 0.62; Device Package: Radial, Can, 10mm
footprint CAP AL TH D10 L5 H22
pins: 1, 2

## UVZ2D330MHD
designator C?, comment 33uF  (value not drawn)
CAP ALUM 33UF 20% 200V RADIAL; Part Number: UVZ2D330MHD; Manufacturer: Nichicon; TemperatureRange: -40C ~ 105C; Type: Polar; Ripple Current: 160mA; Value: 33uF; PartId: 22858; Supplier 1: Digi-Key; Supplier Part Number 1: 493-1404-ND; ComponentLink1Description: Datasheet; ComponentLink1URL: http://nichicon-us.com/english/products/pdfs/e-uvz.pdf; ComponentLink2Description: Digi-Key Listing; ComponentLink2URL: https://www.digikey.com/product-detail/en/nichicon/UVZ2D330MHD/493-1404-ND/589145; Tolerance: 20%; Voltage: 200V; Price: 0; Device Package: Radial, Can, 12.5mm
footprint CAP AL TH D12.5 L5 H20
pins: 1, 2

## UVZ2D330MHD1TO
designator C?, comment 33uF  (value not drawn)
CAP ALUM 33UF 20% 200V RADIAL; Part Number: UVZ2D330MHD1TO; Manufacturer: Nichicon; TemperatureRange: -40C ~ 105C; Type: Polar; Ripple Current: 160mA; Value: 33uF; PartId: 23135; Supplier 1: Digi-Key; Supplier Part Number 1: 493-13528-3-ND; ComponentLink1Description: Datasheet; ComponentLink1URL: http://nichicon-us.com/english/products/pdfs/e-uvz.pdf; ComponentLink2Description: Digi-Key Listing; ComponentLink2URL: https://www.digikey.com/product-detail/en/nichicon/UVZ2D330MHD1TO/493-13528-3-ND/4342084; Tolerance: 20%; Voltage: 200V; Price: 0.2504; Device Package: Radial, Can, 12.5mm
footprint CAP AL TH D12.5 L5 H22
pins: 1, 2

## UVZ2D470MHD
designator C?, comment 47uF  (value not drawn)
CAP ALUM 47UF 20% 200V RADIAL; Part Number: UVZ2D470MHD; Manufacturer: Nichicon; TemperatureRange: -40C ~ 105C; Type: Polar; Ripple Current: 195mA; Value: 47uF; PartId: 22864; Supplier 1: Digi-Key; Supplier Part Number 1: 493-1405-ND; ComponentLink1Description: Datasheet; ComponentLink1URL: http://nichicon-us.com/english/products/pdfs/e-uvz.pdf; ComponentLink2Description: Digi-Key Listing; ComponentLink2URL: https://www.digikey.com/product-detail/en/nichicon/UVZ2D470MHD/493-1405-ND/589146; Tolerance: 20%; Voltage: 200V; Price: 0; Device Package: Radial, Can, 12.5mm
footprint CAP AL TH D12.5 L5 H20
pins: 1, 2

## UVZ2D470MHD1TO
designator C?, comment 47uF  (value not drawn)
CAP ALUM 47UF 20% 200V RADIAL; Part Number: UVZ2D470MHD1TO; Manufacturer: Nichicon; TemperatureRange: -40C ~ 105C; Type: Polar; Ripple Current: 195mA; Value: 47uF; PartId: 23245; Supplier 1: Digi-Key; Supplier Part Number 1: 493-13530-1-ND; ComponentLink1Description: Datasheet; ComponentLink1URL: http://nichicon-us.com/english/products/pdfs/e-uvz.pdf; ComponentLink2Description: Digi-Key Listing; ComponentLink2URL: https://www.digikey.com/product-detail/en/nichicon/UVZ2D470MHD1TO/493-13530-1-ND/4342241; Tolerance: 20%; Voltage: 200V; Price: 0.69; Device Package: Radial, Can, 12.5mm
footprint CAP AL TH D12.5 L5 H22
pins: 1, 2

## UVZ2D471MRD
designator C?, comment 470uF  (value not drawn)
CAP ALUM 470UF 20% 200V RADIAL; Part Number: UVZ2D471MRD; Manufacturer: Nichicon; TemperatureRange: -40C ~ 105C; Type: Polar; Ripple Current: 840mA; Value: 470uF; PartId: 27617; Supplier 1: Digi-Key; Supplier Part Number 1: 493-1409-ND; ComponentLink1Description: Datasheet; ComponentLink1URL: http://nichicon-us.com/english/products/pdfs/e-uvz.pdf; ComponentLink2Description: Digi-Key Listing; ComponentLink2URL: https://www.digikey.com/product-detail/en/nichicon/UVZ2D471MRD/493-1409-ND/589150; Tolerance: 20%; Voltage: 200V; Price: 3.22; Device Package: Radial, Can, 22mm
footprint CAP AL TH D22 L10 H53
pins: 1, 2

## UVZ2E100MPD
designator C?, comment 10uF  (value not drawn)
CAP ALUM 10UF 20% 250V RADIAL; Part Number: UVZ2E100MPD; Manufacturer: Nichicon; TemperatureRange: -40C ~ 105C; Type: Polar; Ripple Current: 74mA; Value: 10uF; PartId: 25194; Supplier 1: Digi-Key; Supplier Part Number 1: 493-1415-ND; ComponentLink1Description: Datasheet; ComponentLink1URL: http://nichicon-us.com/english/products/pdfs/e-uvz.pdf; ComponentLink2Description: Digi-Key Listing; ComponentLink2URL: https://www.digikey.com/product-detail/en/nichicon/UVZ2E100MPD/493-1415-ND/589156; Tolerance: 20%; Voltage: 250V; Price: 0.49; Device Package: Radial, Can, 10mm
footprint CAP AL TH D10 L5 H17.5
pins: 1, 2

## UVZ2E100MPD1TD
designator C?, comment 10uF  (value not drawn)
CAP ALUM 10UF 20% 250V RADIAL; Part Number: UVZ2E100MPD1TD; Manufacturer: Nichicon; TemperatureRange: -40C ~ 105C; Type: Polar; Ripple Current: 74mA; Value: 10uF; PartId: 25024; Supplier 1: Digi-Key; Supplier Part Number 1: 493-13534-3-ND; ComponentLink1Description: Datasheet; ComponentLink1URL: http://nichicon-us.com/english/products/pdfs/e-uvz.pdf; ComponentLink2Description: Digi-Key Listing; ComponentLink2URL: https://www.digikey.com/product-detail/en/nichicon/UVZ2E100MPD1TD/493-13534-3-ND/4342090; Tolerance: 20%; Voltage: 250V; Price: 0.1702; Device Package: Radial, Can, 10mm
footprint CAP AL TH D10 L5 H17.5
pins: 1, 2

## UVZ2E101MHD
designator C?, comment 100uF  (value not drawn)
CAP ALUM 100UF 20% 250V RADIAL; Part Number: UVZ2E101MHD; Manufacturer: Nichicon; TemperatureRange: -40C ~ 105C; Type: Polar; Ripple Current: 365mA; Value: 100uF; PartId: 27043; Supplier 1: Digi-Key; Supplier Part Number 1: 493-1419-ND; ComponentLink1Description: Datasheet; ComponentLink1URL: http://nichicon-us.com/english/products/pdfs/e-uvz.pdf; ComponentLink2Description: Digi-Key Listing; ComponentLink2URL: https://www.digikey.com/product-detail/en/nichicon/UVZ2E101MHD/493-1419-ND/589160; Tolerance: 20%; Voltage: 250V; Price: 1.55; Device Package: Radial, Can, 16mm
footprint CAP AL TH D16 L7.5 H33.5
pins: 1, 2

## UVZ2E220MHD
designator C?, comment 22uF  (value not drawn)
CAP ALUM 22UF 20% 250V RADIAL; Part Number: UVZ2E220MHD; Manufacturer: Nichicon; TemperatureRange: -40C ~ 105C; Type: Polar; Ripple Current: 130mA; Value: 22uF; PartId: 22846; Supplier 1: Digi-Key; Supplier Part Number 1: 493-1416-ND; ComponentLink1Description: Datasheet; ComponentLink1URL: http://nichicon-us.com/english/products/pdfs/e-uvz.pdf; ComponentLink2Description: Digi-Key Listing; ComponentLink2URL: https://www.digikey.com/product-detail/en/nichicon/UVZ2E220MHD/493-1416-ND/589157; Tolerance: 20%; Voltage: 250V; Price: 0; Device Package: Radial, Can, 12.5mm
footprint CAP AL TH D12.5 L5 H20
pins: 1, 2

## UVZ2E220MHD1TO
designator C?, comment 22uF  (value not drawn)
CAP ALUM 22UF 20% 250V RADIAL; Part Number: UVZ2E220MHD1TO; Manufacturer: Nichicon; TemperatureRange: -40C ~ 105C; Type: Polar; Ripple Current: 130mA; Value: 22uF; PartId: 23258; Supplier 1: Digi-Key; Supplier Part Number 1: 493-13535-1-ND; ComponentLink1Description: Datasheet; ComponentLink1URL: http://nichicon-us.com/english/products/pdfs/e-uvz.pdf; ComponentLink2Description: Digi-Key Listing; ComponentLink2URL: https://www.digikey.com/product-detail/en/nichicon/UVZ2E220MHD1TO/493-13535-1-ND/4342246; Tolerance: 20%; Voltage: 250V; Price: 0.72; Device Package: Radial, Can, 12.5mm
footprint CAP AL TH D12.5 L5 H22
pins: 1, 2

## UVZ2E330MHD
designator C?, comment 33uF  (value not drawn)
CAP ALUM 33UF 20% 250V RADIAL; Part Number: UVZ2E330MHD; Manufacturer: Nichicon; TemperatureRange: -40C ~ 105C; Type: Polar; Ripple Current: 160mA; Value: 33uF; PartId: 22863; Supplier 1: Digi-Key; Supplier Part Number 1: 493-1417-ND; ComponentLink1Description: Datasheet; ComponentLink1URL: http://nichicon-us.com/english/products/pdfs/e-uvz.pdf; ComponentLink2Description: Digi-Key Listing; ComponentLink2URL: https://www.digikey.com/product-detail/en/nichicon/UVZ2E330MHD/493-1417-ND/589158; Tolerance: 20%; Voltage: 250V; Price: 0; Device Package: Radial, Can, 12.5mm
footprint CAP AL TH D12.5 L5 H20
pins: 1, 2

## UVZ2E330MHD1TO
designator C?, comment 33uF  (value not drawn)
CAP ALUM 33UF 20% 250V RADIAL; Part Number: UVZ2E330MHD1TO; Manufacturer: Nichicon; TemperatureRange: -40C ~ 105C; Type: Polar; Ripple Current: 160mA; Value: 33uF; PartId: 23239; Supplier 1: Digi-Key; Supplier Part Number 1: 493-13537-1-ND; ComponentLink1Description: Datasheet; ComponentLink1URL: http://nichicon-us.com/english/products/pdfs/e-uvz.pdf; ComponentLink2Description: Digi-Key Listing; ComponentLink2URL: https://www.digikey.com/product-detail/en/nichicon/UVZ2E330MHD1TO/493-13537-1-ND/4342248; Tolerance: 20%; Voltage: 250V; Price: 0.68; Device Package: Radial, Can, 12.5mm
footprint CAP AL TH D12.5 L5 H22
pins: 1, 2

## UVZ2E331MRD
designator C?, comment 330uF  (value not drawn)
CAP ALUM 330UF 20% 250V RADIAL; Part Number: UVZ2E331MRD; Manufacturer: Nichicon; TemperatureRange: -40C ~ 105C; Type: Polar; Ripple Current: 730mA; Value: 330uF; PartId: 27663; Supplier 1: Digi-Key; Supplier Part Number 1: 493-1421-ND; ComponentLink1Description: Datasheet; ComponentLink1URL: http://nichicon-us.com/english/products/pdfs/e-uvz.pdf; ComponentLink2Description: Digi-Key Listing; ComponentLink2URL: https://www.digikey.com/product-detail/en/nichicon/UVZ2E331MRD/493-1421-ND/589162; Tolerance: 20%; Voltage: 250V; Price: 3.34; Device Package: Radial, Can, 22mm
footprint CAP AL TH D22 L10 H53
pins: 1, 2

## UVZ2E470MHD
designator C?, comment 47uF  (value not drawn)
CAP ALUM 47UF 20% 250V RADIAL; Part Number: UVZ2E470MHD; Manufacturer: Nichicon; TemperatureRange: -40C ~ 105C; Type: Polar; Ripple Current: 210mA; Value: 47uF; PartId: 23591; Supplier 1: Digi-Key; Supplier Part Number 1: 493-1418-ND; ComponentLink1Description: Datasheet; ComponentLink1URL: http://nichicon-us.com/english/products/pdfs/e-uvz.pdf; ComponentLink2Description: Digi-Key Listing; ComponentLink2URL: https://www.digikey.com/product-detail/en/nichicon/UVZ2E470MHD/493-1418-ND/589159; Tolerance: 20%; Voltage: 250V; Price: 1.01; Device Package: Radial, Can, 12.5mm
footprint CAP AL TH D12.5 L5 H25
pins: 1, 2

## UVZ2E470MHD1TO
designator C?, comment 47uF  (value not drawn)
CAP ALUM 47UF 20% 250V RADIAL; Part Number: UVZ2E470MHD1TO; Manufacturer: Nichicon; TemperatureRange: -40C ~ 105C; Type: Polar; Ripple Current: 210mA; Value: 47uF; PartId: 24045; Supplier 1: Digi-Key; Supplier Part Number 1: 493-13539-1-ND; ComponentLink1Description: Datasheet; ComponentLink1URL: http://nichicon-us.com/english/products/pdfs/e-uvz.pdf; ComponentLink2Description: Digi-Key Listing; ComponentLink2URL: https://www.digikey.com/product-detail/en/nichicon/UVZ2E470MHD1TO/493-13539-1-ND/4342250; Tolerance: 20%; Voltage: 250V; Price: 1.13; Device Package: Radial, Can, 12.5mm
footprint CAP AL TH D12.5 L5 H27
pins: 1, 2

## UVZ2F3R3MPD1TD
designator C?, comment 3.3uF  (value not drawn)
CAP ALUM 3.3UF 20% 315V RADIAL; Part Number: UVZ2F3R3MPD1TD; Manufacturer: Nichicon; TemperatureRange: -40C ~ 105C; Type: Polar; Ripple Current: 38mA; Value: 3.3uF; PartId: 24772; Supplier 1: Digi-Key; Supplier Part Number 1: 493-13547-1-ND; ComponentLink1Description: Datasheet; ComponentLink1URL: http://nichicon-us.com/english/products/pdfs/e-uvz.pdf; ComponentLink2Description: Digi-Key Listing; ComponentLink2URL: https://www.digikey.com/product-detail/en/nichicon/UVZ2F3R3MPD1TD/493-13547-1-ND/4342258; Tolerance: 20%; Voltage: 315V; Price: 0.43; Device Package: Radial, Can, 10mm
footprint CAP AL TH D10 L5 H14.5
pins: 1, 2

## UVZ2F4R7MPD1TD
designator C?, comment 4.7uF  (value not drawn)
CAP ALUM 4.7UF 20% 315V RADIAL; Part Number: UVZ2F4R7MPD1TD; Manufacturer: Nichicon; TemperatureRange: -40C ~ 105C; Type: Polar; Ripple Current: 45mA; Value: 4.7uF; PartId: 24769; Supplier 1: Digi-Key; Supplier Part Number 1: 493-13549-1-ND; ComponentLink1Description: Datasheet; ComponentLink1URL: http://nichicon-us.com/english/products/pdfs/e-uvz.pdf; ComponentLink2Description: Digi-Key Listing; ComponentLink2URL: https://www.digikey.com/product-detail/en/nichicon/UVZ2F4R7MPD1TD/493-13549-1-ND/4342260; Tolerance: 20%; Voltage: 315V; Price: 0.43; Device Package: Radial, Can, 10mm
footprint CAP AL TH D10 L5 H14.5
pins: 1, 2

## UVZ2F220MHD
designator C?, comment 22uF  (value not drawn)
CAP ALUM 22UF 20% 315V RADIAL; Part Number: UVZ2F220MHD; Manufacturer: Nichicon; TemperatureRange: -40C ~ 105C; Type: Polar; Ripple Current: 115mA; Value: 22uF; PartId: 22857; Supplier 1: Digi-Key; Supplier Part Number 1: 493-1428-ND; ComponentLink1Description: Datasheet; ComponentLink1URL: http://nichicon-us.com/english/products/pdfs/e-uvz.pdf; ComponentLink2Description: Digi-Key Listing; ComponentLink2URL: https://www.digikey.com/product-detail/en/nichicon/UVZ2F220MHD/493-1428-ND/589169; Tolerance: 20%; Voltage: 315V; Price: 0; Device Package: Radial, Can, 12.5mm
footprint CAP AL TH D12.5 L5 H20
pins: 1, 2

## UVZ2F220MHD1TO
designator C?, comment 22uF  (value not drawn)
CAP ALUM 22UF 20% 315V RADIAL; Part Number: UVZ2F220MHD1TO; Manufacturer: Nichicon; TemperatureRange: -40C ~ 105C; Type: Polar; Ripple Current: 115mA; Value: 22uF; PartId: 23227; Supplier 1: Digi-Key; Supplier Part Number 1: 493-13544-1-ND; ComponentLink1Description: Datasheet; ComponentLink1URL: http://nichicon-us.com/english/products/pdfs/e-uvz.pdf; ComponentLink2Description: Digi-Key Listing; ComponentLink2URL: https://www.digikey.com/product-detail/en/nichicon/UVZ2F220MHD1TO/493-13544-1-ND/4342255; Tolerance: 20%; Voltage: 315V; Price: 0.66; Device Package: Radial, Can, 12.5mm
footprint CAP AL TH D12.5 L5 H22
pins: 1, 2

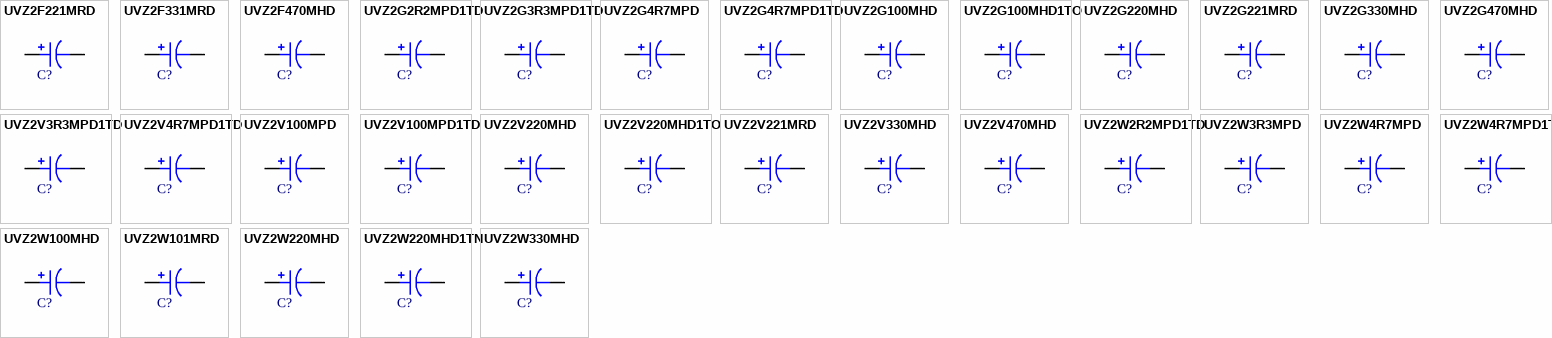
[diagram p114: symbols UVZ2F221MRD to UVZ2W330MHD]

## UVZ2F221MRD
designator C?, comment 220uF  (value not drawn)
CAP ALUM 220UF 20% 315V RADIAL; Part Number: UVZ2F221MRD; Manufacturer: Nichicon; TemperatureRange: -40C ~ 105C; Type: Polar; Ripple Current: 620mA; Value: 220uF; PartId: 27679; Supplier 1: Digi-Key; Supplier Part Number 1: 493-1432-ND; ComponentLink1Description: Datasheet; ComponentLink1URL: http://nichicon-us.com/english/products/pdfs/e-uvz.pdf; ComponentLink2Description: Digi-Key Listing; ComponentLink2URL: https://www.digikey.com/product-detail/en/nichicon/UVZ2F221MRD/493-1432-ND/589173; Tolerance: 20%; Voltage: 315V; Price: 3.67; Device Package: Radial, Can, 22mm
footprint CAP AL TH D22 L10 H53
pins: 1, 2